# EAGLE library part LCD2X16B-16 (library JLB6_Display)
LCD 80x36mm sans pins supplementaires backlight (ampire, TriT, Varitronix)
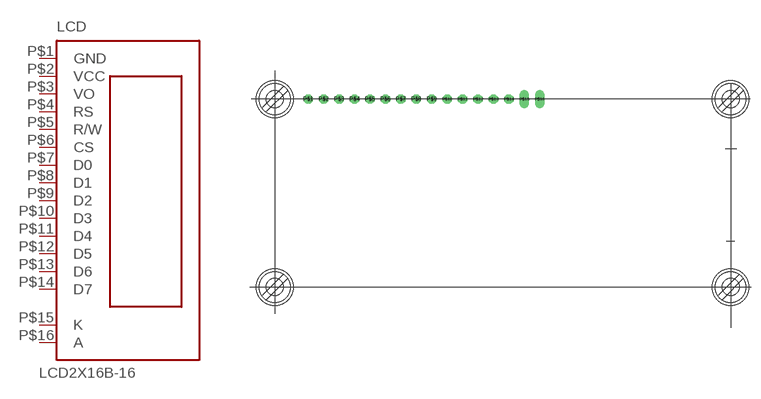
[diagram p1: symbol with the pads of LCD8036B-R16; footprint LCD8036B-R16]

Designator prefix LCD

## LCD2X16B-16  [LCD8036B-R16]
P$1  GND  pwr
P$2  VCC  pwr
P$3  VO  in
P$4  RS  in
P$5  R/W  in
P$6  CS  in
P$7  D0
P$8  D1
P$9  D2
P$10  D3
P$11  D4
P$12  D5
P$13  D6
P$14  D7
P$15  K  in
P$16  A  in

## Footprint LCD8036B-R16 (pad centres in mm)
drill 0.813 pad 1.524 octagon: P$1 -19.05,0; P$2 -16.51,0; P$3 -13.97,0; P$4 -11.43,0; P$5 -8.89,0; P$6 -6.35,0; P$7 -3.81,0; P$8 -1.27,0; P$9 1.27,0; P$10 3.81,0; P$11 6.35,0; P$12 8.89,0; P$13 11.43,0; P$14 13.97,0
drill 0.813 pad 1.524 long: P$15 16.51,0; P$16 19.05,0
hole 2.794 at -24.562,0
hole 2.794 at 50.444,0
hole 2.794 at 50.444,-30.988
hole 2.794 at -24.562,-30.988